# Altium schematic symbol library Passives.SchLib: 160 symbols (part 1 of 2)
Pins are listed as number, name and electrical type; pins without a type are passive.

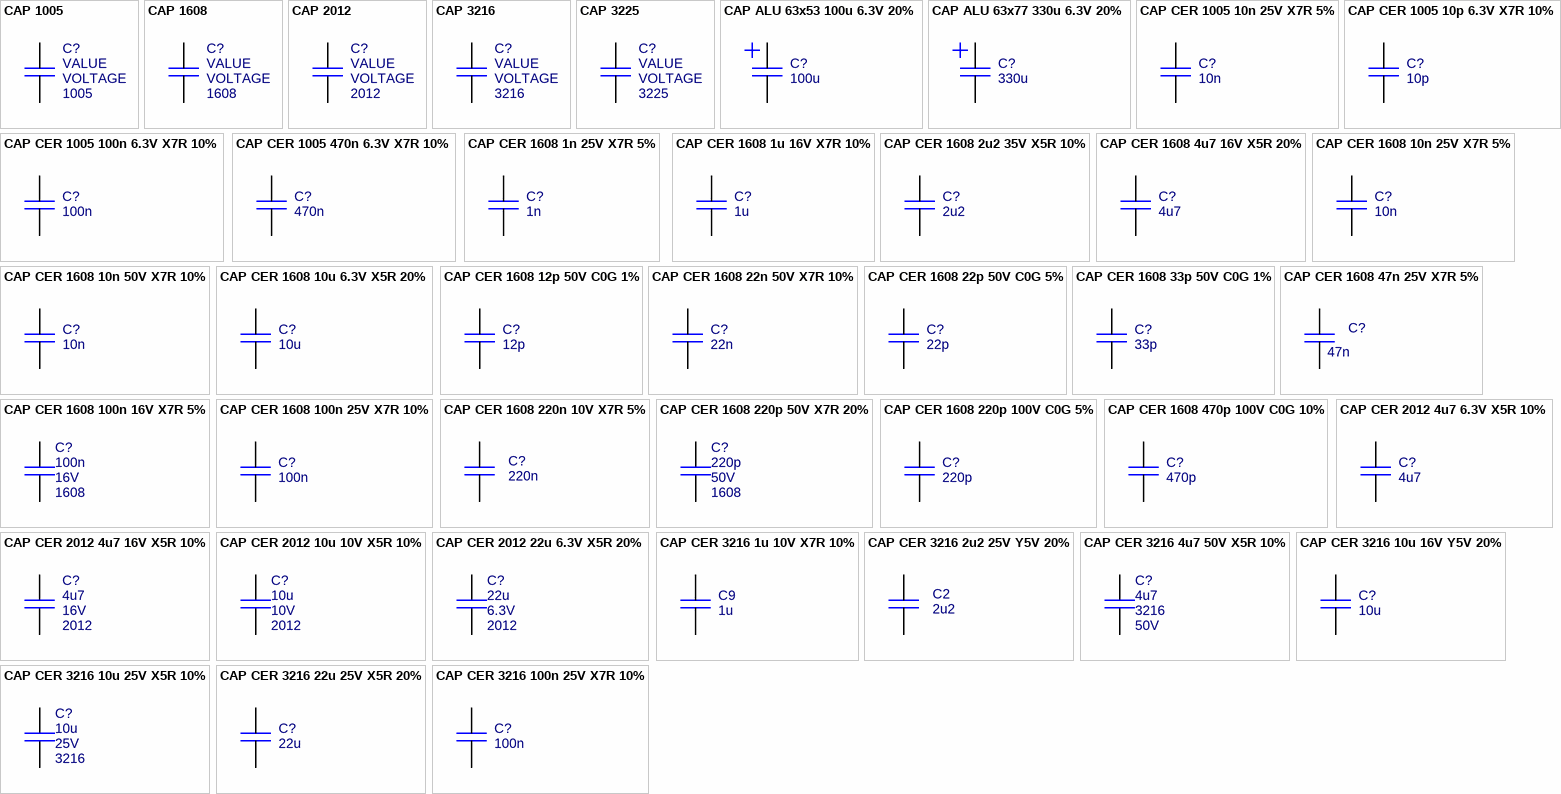
[diagram p0: symbols CAP 1005 to CAP CER 3216 100n 25V X7R 10%]

## CAP 1005
designator C?  Package: 1005  Voltage Rating: VOLTAGE  (hidden comment: CAP 1005)
Capacitor; Package Imperial: 0402; Last Updated: 2014-05-22; ComponentLink1Description: Datasheet; Created: 2014-05-22; Value: VALUE
footprint CAPC1005 (0402) (Metric (Imperial))
pins: 1, 2

## CAP 1608
designator C?, comment Package: 1608  Voltage Rating: VOLTAGE  (hidden comment: Capacitor)
Package Imperial: 0603; ComponentLink1Description: Datasheet; Last Updated: 2014-08-31; Created: 2014-08-31; Tolerance: TOLERANCE; Value: VALUE
footprint CAP_1608 (0603) (Metric (Imperial))
pins: 1, 2

## CAP 2012
designator C?  Package: 2012  Voltage Rating: VOLTAGE  (hidden comment: CAP 2012)
Capacitor; Package Imperial: 0805; Last Updated: 2014-05-20; Tolerance: TOLERANCE; ComponentLink1Description: Datasheet; Created: 2014-05-20; Value: VALUE
footprint CAP_2012 (0805) (Metric (Imperial))
pins: 1, 2

## CAP 3216
designator C?  Package: 3216  Voltage Rating: VOLTAGE  (hidden comment: CAP 3216)
Capacitor; Package Imperial: 1206; ComponentLink1Description: Datasheet; Last Updated: 2014-02-17; Created: 2013-09-28; Value: VALUE
footprint CAP_3216 (1206)
pins: 1, 2

## CAP 3225
designator C?  Package: 3225  Voltage Rating: VOLTAGE  (hidden comment: CAP 3225)
Capacitor; Package Imperial: 1210; Last Updated: 2014-06-09; ComponentLink1Description: Datasheet; Created: 2014-06-09; Value: VALUE
footprint CAP_3225 (1210) (Metric (Imperial))
pins: 1, 2

## CAP ALU 63x53 100u 6.3V 20%
designator C?  value 100u  (hidden comment: CAP ALU 63x53 100u 6.3V 20%)
Electrolytic Capacitor; Supplier Part Number 1: 598-AVE107M06D16T-F; Supplier 1: Mouser; Last Updated: 2014-02-17; Tolerance: 20%; Voltage Rating: 6.3V; ComponentLink1Description: Datasheet; Created: 2013-09-28
footprint ELCO_CASE_D
pins: 1, 2

## CAP ALU 63x77 330u 6.3V 20%
designator C?  value 330u  (hidden comment: CAP ALU 63x77 330u 6.3V 20%)
Electrolytic Capacitor; Supplier Part Number 1: AVE337M06X16T-F; Supplier 1: Mouser; ComponentLink1Description: Datasheet; Last Updated: 2014-02-17; Tolerance: 20%; Voltage Rating: 6.3V; Created: 2013-09-28
footprint 6377CAP(metric)
pins: 1, 2

## CAP CER 1005 10n 25V X7R 5%
designator C?  value 10n  (hidden comment: CAP CER 1005 10n 25V X7R 5%)
Capacitor; Manufacturer 1: Vishay; Manufacturer Part Number 1: VJ0402Y103JXXCW1BC; Package Imperial: 0402; Supplier 1: Mouser; Supplier Part Number 1: 77-VJ0402Y103JXXCBC; Last Updated: 2014-07-01; Tolerance: 5%; Package: 1005; Voltage Rating: 25V; ComponentLink1Description: Datasheet; Created: 2014-07-01; Temperature Coefficiënt: X7R
footprint CAP_1005 (0402) (Metric (Imperial))
pins: 1, 2

## CAP CER 1005 10p 6.3V X7R 10%
designator C?  value 10p  (hidden comment: CAP CER 1005 10p 6.3V X7R 10%)
Capacitor; Package Imperial: 0402; Last Updated: 2014-06-09; Tolerance: 10%; Package: 1005; Voltage Rating: 6.3V; ComponentLink1Description: Datasheet; Created: 2014-06-09; Temperature Coefficiënt: X7R
footprint CAP_1005 (0402) (Metric (Imperial))
pins: 1, 2

## CAP CER 1005 100n 6.3V X7R 10%
designator C?  value 100n  (hidden comment: CAP CER 1005 100n 6.3V X7R 10%)
Capacitor; Package Imperial: 0402; Last Updated: 2014-05-22; Tolerance: 10%; Package: 1005; Voltage Rating: 6.3V; ComponentLink1Description: Datasheet; Created: 2014-05-22; Temperature Coefficiënt: X7R
footprint CAP_1005 (0402) (Metric (Imperial))
pins: 1, 2

## CAP CER 1005 470n 6.3V X7R 10%
designator C?  value 470n  (hidden comment: CAP CER 1005 470n 6.3V X7R 10%)
Capacitor; Manufacturer 1: Taiyo Yuden; Manufacturer Part Number 1: JMK105B7474KVHF; Package Imperial: 0402; Supplier 1: Mouser; Supplier Part Number 1: 963-JMK105B7474KVHF; Last Updated: 2014-05-20; Tolerance: 10%; Package: 1005; Voltage Rating: 6.3V; ComponentLink1Description: Datasheet; Created: 2014-05-20; Temperature Coefficiënt: X7R
footprint CAP_1005 (0402) (Metric (Imperial))
pins: 1, 2

## CAP CER 1608 1n 25V X7R 5%
designator C?  value 1n  (hidden comment: CAP CER 1608 1n 25V X7R 5%)
Capacitor; Package Imperial: 0603; ComponentLink1Description: Datasheet; Last Updated: 2014-02-17; Package: 1608; Temperature Coefficiënt: X7R; Tolerance: 5%; Voltage Rating: 25V; Created: 2013-10-21
footprint CAP_1608 (0603)
pins: 1, 2

## CAP CER 1608 1u 16V X7R 10%
designator C?  value 1u  (hidden comment: CAP CER 1608 1u 16V X7R 10%)
Capacitor; Package Imperial: 0603; Supplier 1: Mouser; Supplier Part Number 1: 810-C1608X7R1C105K; ComponentLink1Description: Datasheet; Last Updated: 2014-02-17; Package: 1608; Temperature Coefficiënt: X7R; Tolerance: 10%; Voltage Rating: 16V; Created: 2013-09-28
footprint CAP_1608 (0603)
pins: 1, 2

## CAP CER 1608 2u2 35V X5R 10%
designator C?  value 2u2  (hidden comment: CAP CER 1608 2u2 35V X5R 10%)
Capacitor; Manufacturer 1: TDK; Manufacturer Part Number 1: C1608X5R1V225K080AC; Package Imperial: 0603; Supplier 1: Mouser; Supplier Part Number 1: 810-C1608X5R1V225K; Last Updated: 2014-02-07; Tolerance: 10%; Package: 1608; Voltage Rating: 35V; ComponentLink1Description: Datasheet; Created: 2014-02-07; Temperature Coefficiënt: X5R
footprint CAP_0603 (Chip Capacitor, Body 1.6x0.8mm, IPC High Density)
footprint CAP_1608 (0603)
pins: 1, 2

## CAP CER 1608 4u7 16V X5R 20%
designator C?  value 4u7  (hidden comment: CAP CER 1608 4u7 16V X5R 20%)
Capacitor; Manufacturer 1: Kemet; Manufacturer Part Number 1: C0603C475K9PACTU; Tolerance: 10%; Package Imperial: 0603; Supplier 1: Mouser; Supplier Part Number 1: 80-C0603C475K9P; Last Updated: 2014-07-01; Package: 1608; Voltage Rating: 16V; ComponentLink1Description: Datasheet; Created: 2013-09-28; Temperature Coefficiënt: X5R
footprint CAP_1608 (0603) (Metric (Imperial))
pins: 1, 2

## CAP CER 1608 10n 25V X7R 5%
designator C?  value 10n  (hidden comment: CAP CER 1608 10n 25V X7R 5%)
Capacitor; Manufacturer 1: Vishay; Manufacturer Part Number 1: VJ0603Y103JXXPW1BC; Package Imperial: 0603; Supplier 1: Mouser; Supplier Part Number 1: 77-VJ0603Y103JXXPBC; ComponentLink1Description: Datasheet; ComponentLink1URL: http://www.vishay.com/docs/28548/vjw1bcbascomseries.pdf; Last Updated: 2014-02-17; Package: 1608; Temperature Coefficiënt: X7R; Tolerance: 5%; Voltage Rating: 25V; Created: 2013-09-28
footprint CAP_0603 (Chip Capacitor, Body 1.6x0.8mm, IPC High Density)
footprint CAP_1608 (0603)
pins: 1, 2

## CAP CER 1608 10n 50V X7R 10%
designator C?  value 10n  (hidden comment: CAP CER 1608 10n 50V X7R 10%)
Capacitor; Manufacturer 1: Vishay; Manufacturer Part Number 1: VJ0603Y103KXACW1BC; Package Imperial: 0603; Supplier 1: Mouser; Supplier Part Number 1: 77-VJ0603Y103KXACBC; ComponentLink1Description: Datasheet; ComponentLink1URL: http://www.vishay.com/docs/28548/vjw1bcbascomseries.pdf; Last Updated: 2014-02-17; Package: 1608; Temperature Coefficiënt: X7R; Tolerance: 10%; Voltage Rating: 50V; Created: 2013-09-28
footprint CAP_0603 (Chip Capacitor, Body 1.6x0.8mm, IPC High Density)
footprint CAP_1608 (0603)
pins: 1, 2

## CAP CER 1608 10u 6.3V X5R 20%
designator C?  value 10u  (hidden comment: CAP CER 1608 10u 6.3V X5R 20%)
Capacitor; Manufacturer 1: AVX; Manufacturer Part Number 1: 06036D106MAT2A; Package Imperial: 0603; Supplier 1: Mouser; Supplier Part Number 1: 581-06036D106MAT2A; Last Updated: 2014-02-17; Tolerance: 20%; Package: 1608; Voltage Rating: 6.3V; ComponentLink1Description: Datasheet; Created: 2014-02-07; Temperature Coefficiënt: X5R
footprint CAP_1608 (0603) (Metric (Imperial))
pins: 1, 2

## CAP CER 1608 12p 50V C0G 1%
designator C?  value 12p  (hidden comment: CAP CER 1608 12p 50V C0G 1%)
Capacitor; Manufacturer 1: Vishay; Manufacturer Part Number 1: VJ0603A120FXACW1BC; Package Imperial: 0603; Supplier 1: Mouser; Supplier Part Number 1: 77-VJ0603A120FXACBC; ComponentLink1Description: Datasheet; ComponentLink1URL: http://www.mouser.com/ds/2/427/vjw1bcbascomseries-223529.pdf; Last Updated: 2014-06-29; Package: 1608; Temperature Coefficiënt: C0G; Tolerance: 1%; Voltage Rating: 50V; Created: 2013-10-17
footprint CAP_1608 (0603) (Metric (Imperial))
pins: 1, 2

## CAP CER 1608 22n 50V X7R 10%
designator C?  value 22n  (hidden comment: CAP CER 1608 22n 50V X7R 10%)
Capacitor; Package Imperial: 0603; Supplier 1: Mouser; Supplier Part Number 1: 77-VJ0603Y223KXACBC; ComponentLink1Description: Datasheet; Last Updated: 2014-02-17; Package: 1608; Temperature Coefficiënt: X7R; Tolerance: 10%; Voltage Rating: 50V; Created: 2013-09-28
footprint CAP_1608 (0603) (Metric (Imperial))
pins: 1, 2

## CAP CER 1608 22p 50V C0G 5%
designator C?  value 22p  (hidden comment: CAP CER 1608 22p 50V C0G 5%)
Capacitor; Manufacturer 1: Vishay; Manufacturer Part Number 1: VJ0603A220JXACW1BC; Package Imperial: 0603; Supplier 1: Mouser; Supplier Part Number 1: 77-VJ0603A220JXACBC; ComponentLink1Description: Datasheet; Last Updated: 2014-08-31; Package: 1608; Temperature Coefficiënt: C0G; Tolerance: 5%; Voltage Rating: 50V; Created: 2014-08-31
footprint CAP_1608 (0603) (Metric (Imperial))
pins: 1, 2

## CAP CER 1608 33p 50V C0G 1%
designator C?  value 33p  (hidden comment: CAP CER 1608 33p 50V C0G 1%)
Capacitor; Package Imperial: 0603; ComponentLink1Description: Datasheet; Last Updated: 2014-02-17; Package: 1608; Temperature Coefficiënt: C0G; Tolerance: 1%; Voltage Rating: 50V; Created: 2013-10-18
footprint CAP_0603 (Chip Capacitor, Body 1.6x0.8mm, IPC High Density)
footprint CAP_1608 (0603)
pins: 1, 2

## CAP CER 1608 47n 25V X7R 5%
designator C?  value 47n  (hidden comment: CAP CER 1608 47n 25V X7R 5%)
Capacitor; Manufacturer 1: Vishay; Manufacturer Part Number 1: VJ0603Y473JXXCW1BC; Package Imperial: 0603; Supplier 1: Mouser; Supplier Part Number 1: 77-VJ0603Y473JXXCBC; ComponentLink1Description: Datasheet; ComponentLink1URL: http://www.vishay.com/docs/28548/vjw1bcbascomseries.pdf; Last Updated: 2014-02-17; Package: 1608; Temperature Coefficiënt: X7R; Tolerance: 5%; Voltage Rating: 25V; Created: 2013-09-30
footprint CAP_0603 (Chip Capacitor, Body 1.6x0.8mm, IPC High Density)
footprint CAP_1608 (0603)
pins: 1, 2

## CAP CER 1608 100n 16V X7R 5%
designator C?  value 100n  Package: 1608  Voltage Rating: 16V  (hidden comment: CAP CER 1608 100n 16V X7R 5%)
Capacitor; Manufacturer 1: Vishay; Manufacturer Part Number 1: VJ0603Y104JXJPW1BC; Package Imperial: 0603; Supplier 1: Mouser; Supplier Part Number 1: 77-VJ0603Y104JXJPBC; ComponentLink1Description: Datasheet; Last Updated: 2014-02-17; Temperature Coefficiënt: X7R; Tolerance: 5%; Created: 2013-09-28
footprint CAPC1608 (0603) (Metric (Imperial))
pins: 1, 2

## CAP CER 1608 100n 25V X7R 10%
designator C?  value 100n  (hidden comment: CAP CER 1608 100n 25V X7R 10%)
Capacitor; Manufacturer 1: Murata; Manufacturer Part Number 1: GRM188R71E104KA01D; Package Imperial: 0603; Supplier 1: Mouser; Supplier Part Number 1: 81-GRM39X104K25; ComponentLink1Description: Datasheet; Last Updated: 2014-06-28; Package: 1608; Temperature Coefficiënt: X7R; Tolerance: 10%; Voltage Rating: 25V; Created: 2014-06-28
footprint CAP_1608 (0603) (Metric (Imperial))
pins: 1, 2

## CAP CER 1608 220n 10V X7R 5%
designator C?  value 220n  (hidden comment: CAP CER 1608 220n 10V X7R 5%)
Capacitor; Package Imperial: 0603; Supplier 1: Mouser; Supplier Part Number 1: 77-VJ0603Y224JXQPBC; ComponentLink1Description: Datasheet; Last Updated: 2014-02-17; Package: 1608; Temperature Coefficiënt: X7R; Tolerance: 5%; Voltage Rating: 10V; Created: 2013-09-28
footprint CAP_0603 (Chip Capacitor, Body 1.6x0.8mm, IPC High Density)
footprint CAP_1608 (0603)
pins: 1, 2

## CAP CER 1608 220p 50V X7R 20%
designator C?  value 220p  Package: 1608  Voltage Rating: 50V  (hidden comment: CAP CER 1608 220p 50V X7R 20%)
Capacitor; Manufacturer 1: Vishay; Manufacturer Part Number 1: VJ0603Y221MXAPW1BC; Package Imperial: 0603; Supplier 1: Mouser; Supplier Part Number 1: 77-VJ0603Y221MXAPBC; ComponentLink1Description: Datasheet; Last Updated: 2015-04-28; Temperature Coefficiënt: X7R; Tolerance: 20%; Created: 2014-02-22
footprint CAPC1608 (0603) (Metric (Imperial))
pins: 1, 2

## CAP CER 1608 220p 100V C0G 5%
designator C?  value 220p  (hidden comment: CAP CER 1608 220p 100V C0G 5%)
Capacitor; Manufacturer 1: Vishay; Manufacturer Part Number 1: VJ0603A221JXBPW1BC; Package Imperial: 0603; Supplier 1: Mouser; Supplier Part Number 1: 140-CC504N221J-RC; ComponentLink1Description: Datasheet; Last Updated: 2014-02-22; Package: 1608; Temperature Coefficiënt: C0G; Tolerance: 5%; Voltage Rating: 100V; Created: 2014-02-22
footprint CAP_1608 (0603)
pins: 1, 2

## CAP CER 1608 470p 100V C0G 10%
designator C?  value 470p  (hidden comment: CAP CER 1608 470p 100V C0G 10%)
Capacitor; Manufacturer 1: Vishay; Manufacturer Part Number 1: VJ0603A471KXBPW1BC; Package Imperial: 0603; Supplier 1: Mouser; Supplier Part Number 1: 77-VJ0603A471KXBPBC; Last Updated: 2014-02-17; Tolerance: 10%; Package: 1608; Voltage Rating: 100V; ComponentLink1Description: Datasheet; Created: 2014-02-07; Temperature Coefficiënt: C0G
footprint CAP_1608 (0603)
pins: 1, 2

## CAP CER 2012 4u7 6.3V X5R 10%
designator C?  value 4u7  (hidden comment: CAP CER 2012 4u7 6.3V X5R 10%)
Capacitor; Manufacturer 1: Vishay; Manufacturer Part Number 1: VJ0805G475KXYTW1BC; Package Imperial: 0805; Supplier 1: Mouser; Supplier Part Number 1: 77-VJ0805G475KXYTBC; Last Updated: 2014-05-20; Tolerance: 10%; Package: 2012; Voltage Rating: 6.3V; ComponentLink1Description: Datasheet; Created: 2014-05-20; Temperature Coefficiënt: X5R
footprint CAP_2012 (0805) (Metric (Imperial))
pins: 1, 2

## CAP CER 2012 4u7 16V X5R 10%
designator C?  value 4u7  Package: 2012  Voltage Rating: 16V  (hidden comment: CAP CER 2012 4u7 16V X5R 10%)
Capacitor; Manufacturer 1: Yageo; Manufacturer Part Number 1: CC0805KKX5R7BB475; Package Imperial: 0805; Supplier 1: Mouser; Supplier Part Number 1: 603-CC805KKX5R7BB475; Last Updated: 2015-04-27; Tolerance: 10%; ComponentLink1Description: Datasheet; Created: 2014-05-20; Temperature Coefficiënt: X5R
footprint CAPC2012 (0805) (Metric (Imperial))
pins: 1, 2

## CAP CER 2012 10u 10V X5R 10%
designator C?  value 10u  Package: 2012  Voltage Rating: 10V  (hidden comment: CAP CER 2012 10u 10V X5R 10%)
Capacitor; Manufacturer 1: Vishay; Manufacturer Part Number 1: VJ0805G106KXQTW1BC; Package Imperial: 0805; Supplier 1: Mouser; Supplier Part Number 1: 77-VJ0805G106KXQTBC; ComponentLink1Description: Datasheet; Last Updated: 2014-07-24; Temperature Coefficiënt: X5R; Tolerance: 10%; Created: 2013-09-28
footprint CAPC2012 (0805) (Metric (Imperial))
pins: 1, 2

## CAP CER 2012 22u 6.3V X5R 20%
designator C?  value 22u  Package: 2012  Voltage Rating: 6.3V  (hidden comment: CAP CER 2012 22u 6.3V X5R 20%)
Capacitor; Manufacturer 1: Vishay; Manufacturer Part Number 1: VJ0805G226MXYTW1BC; Package Imperial: 0805; Supplier 1: Mouser; Supplier Part Number 1: 77-VJ0805G226MXYTBC; ComponentLink1Description: Datasheet; Last Updated: 2015-04-27; Temperature Coefficiënt: X5R; Tolerance: 20%; Created: 2014-06-28
footprint CAPC2012 (0805) (Metric (Imperial))
pins: 1, 2

## CAP CER 3216 1u 10V X7R 10%
designator C9  value 1u  (hidden comment: CAP CER 3216 1u 10V X7R 10%)
Capacitor; Package Imperial: 1206; Supplier 1: Mouser; Supplier Part Number 1: 77-VJ1206Y105KXQTBC; ComponentLink1Description: Datasheet; Last Updated: 2014-02-17; Package: 3216; Temperature Coefficiënt: X7R; Tolerance: 10%; Voltage Rating: 10V; Created: 2013-09-28
footprint CAP_1206 (Chip Capacitor, Body 3.2x1.6mm, IPC High Density)
footprint CAP_3216 (1206)
pins: 1, 2

## CAP CER 3216 2u2 25V Y5V 20%
designator C2  value 2u2  (hidden comment: CAP CER 3216 2u2 25V Y5V 20%)
Capacitor; Package Imperial: 1206; Supplier 1: Mouser; Supplier Part Number 1: 77-VJ1206V225MXXTBC; ComponentLink1Description: Datasheet; Last Updated: 2014-02-17; Package: 3216; Temperature Coefficiënt: Y5V; Tolerance: 20%; Voltage Rating: 25V; Created: 2013-09-28
footprint CAP_3216 (1206)
pins: 1, 2

## CAP CER 3216 4u7 50V X5R 10%
designator C?  value 4u7  Voltage Rating: 50V  Package: 3216  (hidden comment: CAP CER 3216 4u7 50V X5R 10%)
Capacitor; Manufacturer 1: Tayo Yuden; Manufacturer Part Number 1: GMK316F475ZG-T; Package Imperial: 1206; Supplier 1: Mouser; Supplier Part Number 1: 963-GMK316F475ZG-T; ComponentLink1Description: Datasheet; Last Updated: 2015-04-28; Temperature Coefficiënt: X5R; Tolerance: 10%; Created: 2013-09-28
footprint CAPC3216 (1206) (Metric (Imperial))
pins: 1, 2

## CAP CER 3216 10u 16V Y5V 20%
designator C?  value 10u  (hidden comment: CAP CER 3216 10u 16V Y5V 20%)
Capacitor; Package Imperial: 1206; Supplier 1: Mouser; Supplier Part Number 1: 77-VJ1206V106ZXQTBC; ComponentLink1Description: Datasheet; Last Updated: 2014-07-24; Package: 3216; Temperature Coefficiënt: Y5V; Tolerance: 20%; Voltage Rating: 16V; Created: 2013-09-28
footprint CAP_3216 (1206) (Metric (Imperial))
pins: 1, 2

## CAP CER 3216 10u 25V X5R 10%
designator C?  value 10u  Package: 3216  Voltage Rating: 25V  (hidden comment: CAP CER 3216 10u 25V X5R 10%)
Capacitor; Manufacturer 1: Yageo; Manufacturer Part Number 1: CC1206KKX5R8BB106; Package Imperial: 1206; Supplier 1: Mouser; Supplier Part Number 1: 603-CC206KKX5R8BB106; ComponentLink1Description: Datasheet; Last Updated: 2014-07-24; Temperature Coefficiënt: X5R; Tolerance: 10%; Created: 2013-09-28
footprint CAPC3216 (1206) (Metric (Imperial))
pins: 1, 2

## CAP CER 3216 22u 25V X5R 20%
designator C?  value 22u  (hidden comment: CAP CER 3216 22u 25V X5R 20%)
Capacitor; Manufacturer 1: Tayo Yuden; Manufacturer Part Number 1: TMK316BBJ226ML-T; Package Imperial: 1206; Supplier 1: Mouser; Supplier Part Number 1: 963-TMK316BBJ226ML-T; ComponentLink1Description: Datasheet; Last Updated: 2014-06-28; Package: 3216; Temperature Coefficiënt: X5R; Tolerance: 20%; Voltage Rating: 25V; Created: 2014-06-28
footprint CAP_3216 (1206) (Metric (Imperial))
pins: 1, 2

## CAP CER 3216 100n 25V X7R 10%
designator C?  value 100n  (hidden comment: CAP CER 3216 100n 25V X7R 10%)
Capacitor; Manufacturer 1: Vishay; Manufacturer Part Number 1: VJ1206Y104KXXPW1BC; Package Imperial: 1206; Supplier 1: Mouser; Supplier Part Number 1: 77-VJ1206Y104KXXPBC; ComponentLink1Description: Datasheet; Last Updated: 2014-06-28; Package: 3216; Temperature Coefficiënt: X7R; Tolerance: 10%; Voltage Rating: 25V; Created: 2014-06-28
footprint CAP_3216 (1206) (Metric (Imperial))
pins: 1, 2

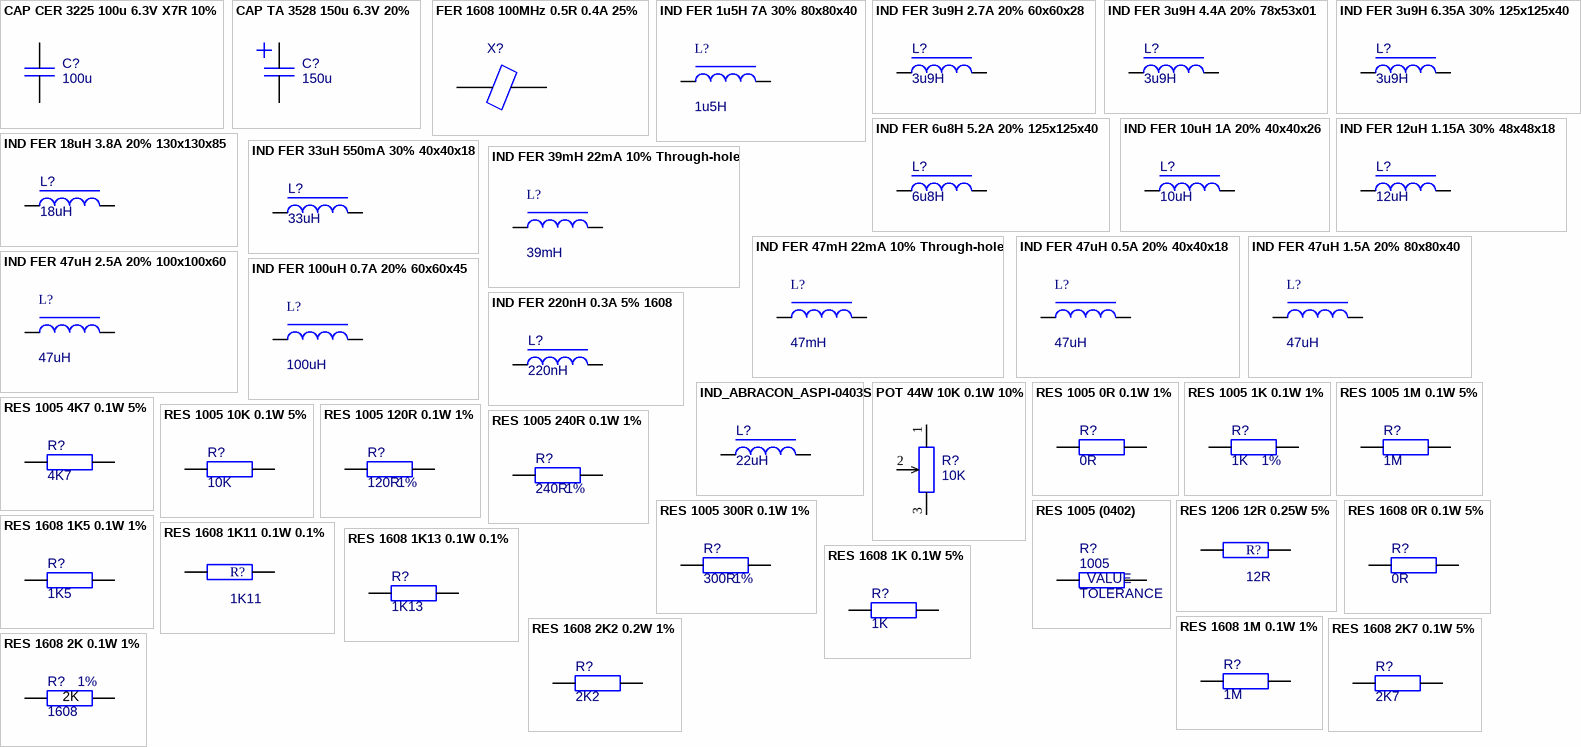
[diagram p1: symbols CAP CER 3225 100u 6.3V X7R 10% to RES 1608 2K 0.1W 1%]

## CAP CER 3225 100u 6.3V X7R 10%
designator C?  value 100u  (hidden comment: CAP CER 3225 100u 6.3V X7R 10%)
Capacitor; Package Imperial: 1210; Last Updated: 2014-06-09; Tolerance: 10%; Package: 3225; Voltage Rating: 6.3V; ComponentLink1Description: Datasheet; Created: 2014-06-09; Temperature Coefficiënt: X7R
footprint CAP_3225 (1210) (Metric (Imperial))
pins: 1, 2

## CAP TA 3528 150u 6.3V 20%
designator C?  value 150u  (hidden comment: CAP TA 3528 150u 6.3V 20%)
Electrolytic Capacitor; Manufacturer 1: AVX; Manufacturer Part Number 1: TCJB157M006R0045; Package Imperial: 1210; ESR: 45mR; Supplier Part Number 1: 581-TCJB157M006R0045; Supplier 1: Mouser; ComponentLink1Description: Datasheet; Last Updated: 2014-05-31; Package: 3528; Tolerance: 20%; Voltage Rating: 6.3V; Created: 2014-05-31
footprint CAPMP3529X21N (Molded Capacitor, 2-Leads, Body 3,50x2,85mm, IPC Medium Density)
pins: 1, 2

## FER 1608 100MHz 0.5R 0.4A 25%
designator X?  (value not drawn)
Ferrite bead; Manufacturer 1: Murata; Manufacturer Part Number 1: BLM18AG102SN1D; Package Imperial: 0603; ComponentLink1Description: Datasheet; Supplier 1: Mouser; Supplier Part Number 1: 81-BLM11A102S; Last Updated: 2014-02-18; Package: 1608; Tolerance: 25%; Created: 2014-02-18; Max DC Current: 0.4A; Max DC Resistance: 0.5R; Test Frequency: 100MHz; Value: Ferrite
footprint FER_1608 (0603) (Metric (Imperial))
pins: 1, 2

## IND FER 1u5H 7A 30% 80x80x40
designator L?  value 1u5H  (hidden comment: IND FER 1u5H 7A 30% 80x80x40)
Inductor; Manufacturer 1: Bourns; Manufacturer Part Number 1: SRN8040-1R5Y; ComponentLink1Description: Datasheet; Supplier 1: Mouser; Supplier Part Number 1: 652-SRN8040-1R5Y; Last Updated: 2013-01-24; Tolerance: 30%; Created: 2014-01-24; Current Rating: 7A
pins: 1, 2

## IND FER 3u9H 2.7A 20% 60x60x28
designator L?  value 3u9H  (hidden comment: IND FER 3u9H 2.7A 20% 60x60x28)
Inductor; Manufacturer 1: Bourns; Manufacturer Part Number 1: SRN6028-3R9M; ComponentLink1Description: Datasheet; Supplier 1: Mouser; Supplier Part Number 1: 652-SRN6028-3R9M; Last Updated: 2014-06-30; Package: SRR1240; Tolerance: 20%; Created: 2014-06-30; Current Rating: 2.7A
footprint BOURNS_SRN6028
pins: 1, 2

## IND FER 3u9H 4.4A 20% 78x53x01
designator L?  value 3u9H  (hidden comment: IND FER 3u9H 4.4A 20% 78x53x01)
Inductor; Manufacturer 1: Bourns; Manufacturer Part Number 1: SRN6028-3R9M; ComponentLink1Description: Datasheet; Supplier 1: Mouser; Supplier Part Number 1: 652-SRN6028-3R9M; Last Updated: 2014-06-30; Package: SRR1240; Tolerance: 20%; Created: 2014-06-30; Current Rating: 4.4A
footprint BOURNS_SDR0805
pins: 1, 2

## IND FER 3u9H 6.35A 30% 125x125x40
designator L?  value 3u9H  (hidden comment: IND FER 3u9H 6.35A 30% 125x125x40)
Inductor; Manufacturer 1: Bourns; Manufacturer Part Number 1: SRR1240-3R9Y; Current Rating: 5.2A; ComponentLink1Description: Datasheet; Supplier 1: Mouser; Supplier Part Number 1: 652-SRR1240-3R9Y; Last Updated: 2014-06-27; Package: SRR1240; Tolerance: 30%; Created: 2014-06-27
footprint BOURNS_SRR1240
pins: 1, 2

## IND FER 6u8H 5.2A 20% 125x125x40
designator L?  value 6u8H  (hidden comment: IND FER 6u8H 5.2A 20% 125x125x40)
Inductor; Manufacturer 1: Bourns; Manufacturer Part Number 1: SRR1240-6R8M; ComponentLink1Description: Datasheet; Supplier 1: Mouser; Supplier Part Number 1: 652-SRR1240-6R8M; Last Updated: 2014-06-27; Package: SRR1240; Tolerance: 20%; Created: 2014-06-27; Current Rating: 5.2A
footprint BOURNS_SRR1240
pins: 1, 2

## IND FER 10uH 1A 20% 40x40x26
designator L?  value 10uH  (hidden comment: IND FER 10uH 1A 20% 40x40x26)
Inductor; Manufacturer 1: Yuden; Manufacturer Part Number 1: NRG4026T100M; Current Rating: 0.7A; ComponentLink1Description: Datasheet; Supplier 1: Mouser; Supplier Part Number 1: 963-NRG4026T100M; Last Updated: 2014-02-07; Package: 963-NRG4026T100M; Tolerance: 20%; Created: 2014-02-07
footprint NR4018
pins: 1, 2

## IND FER 12uH 1.15A 30% 48x48x18
designator L?  value 12uH  (hidden comment: IND FER 12uH 1.15A 30% 48x48x18)
Inductor; Manufacturer 1: Bourns; Manufacturer Part Number 1: SRR4018-120Y; ComponentLink1Description: Datasheet; Supplier 1: Mouser; Supplier Part Number 1: 652-SRR4018-120Y; Last Updated: 2014-02-17; Tolerance: 30%; Created: 2014-02-17; Current Rating: 1.15A
footprint BOURNS_SRR4018
pins: 1, 2

## IND FER 18uH 3.8A 20% 130x130x85
designator L?  value 18uH  (hidden comment: IND FER 18uH 3.8A 20% 130x130x85)
Inductor; Manufacturer 1: Bourns; Manufacturer Part Number 1: SRR1208-180ML; ComponentLink1Description: Datasheet; Supplier 1: Mouser; Supplier Part Number 1: 652-SRR1208-180ML; Last Updated: 2014-06-27; Package: SRR1208; Tolerance: 20%; Created: 2014-06-27; Current Rating: 3.8A
footprint BOURNS_SRR1208
pins: 1, 2

## IND FER 33uH 550mA 30% 40x40x18
designator L?  value 33uH  (hidden comment: IND FER 33uH 550mA 30% 40x40x18)
Inductor; Manufacturer 1: Sumida; Manufacturer Part Number 1: CDRH3D16/LDNP-330NC; Current Rating: 0.55A; ComponentLink1URL: http://www.sumida.com/products/pdf/CDRH3D16,3D16HP,3D16LD.pdf; ComponentLink1Description: Datasheet; Supplier 1: Mouser; Supplier Part Number 1: 851-CDRH3D16LDNP330; Last Updated: 2014-02-16; Tolerance: 30%; Created: 2013-09-28
footprint CDRH3D16 (Sumida inductor package)
pins: 1, 2

## IND FER 39mH 22mA 10% Through-hole
designator L?  value 39mH  (hidden comment: IND FER 39mH 22mA 10% Through-hole)
Inductor; Current Rating: 0.022A; ComponentLink1Description: Datasheet; Supplier 1: Mouser; Supplier Part Number 1: 652-RLB1014-393KL; Last Updated: 2013-09-28; Tolerance: 10%; Created: 2013-09-28
footprint IND_BOURNS_RLB1014 (Inductor Bourns RLB1014)
pins: 1, 2

## IND FER 47mH 22mA 10% Through-hole
designator L?  value 47mH  (hidden comment: IND FER 47mH 22mA 10% Through-hole)
Inductor; Current Rating: 0.022A; ComponentLink1Description: Datasheet; Supplier 1: Mouser; Last Updated: 2013-09-28; Tolerance: 10%; Created: 2013-09-28
footprint IND_BOURNS_RLB1014 (Inductor Bourns RLB1014)
pins: 1, 2

## IND FER 47uH 0.5A 20% 40x40x18
designator L?  value 47uH  (hidden comment: IND FER 47uH 0.5A 20% 40x40x18)
Inductor; Manufacturer 1: Yuden; ComponentLink1URL: http://www.yuden.co.jp/ut/product/category/inductor/NR4018T470M.pdf; ComponentLink1Description: Datasheet; Supplier 1: Mouser; Supplier Part Number 1: 963-NR4018T470M; Last Updated: 2013-09-28; Tolerance: 20%; Created: 2013-09-28; Current Rating: 0.5A
footprint NR4018
pins: 1, 2

## IND FER 47uH 1.5A 20% 80x80x40
designator L?  value 47uH  (hidden comment: IND FER 47uH 1.5A 20% 80x80x40)
Inductor; ComponentLink1URL: http://www.mouser.com/ds/2/396/wound04_e-8385.pdf; ComponentLink1Description: Datasheet; Supplier 1: Mouser; Supplier Part Number 1: 963-NR8040T470M; Last Updated: 2013-09-28; Tolerance: 20%; Created: 2013-09-28; Current Rating: 1.5A
footprint 8040IND(METRIC)
pins: 1, 2

## IND FER 47uH 2.5A 20% 100x100x60
designator L?  value 47uH  (hidden comment: IND FER 47uH 2.5A 20% 100x100x60)
Inductor; Manufacturer 1: Bourns; ComponentLink1URL: http://www.bourns.com/data/global/pdfs/SRN1060.pdf; ComponentLink1Description: Datasheet; Supplier 1: Mouser; Supplier Part Number 1: 652-SRN1060-470M; Last Updated: 2013-09-28; Tolerance: 20%; Created: 2013-09-28; Current Rating: 2.5A
footprint 1060IND(METRIC)
pins: 1, 2

## IND FER 100uH 0.7A 20% 60x60x45
designator L?  value 100uH  (hidden comment: IND FER 100uH 0.7A 20% 60x60x45)
Inductor; Manufacturer 1: Yuden; ComponentLink1URL: http://www.yuden.co.jp/ut/product/category/inductor/NR4018T470M.pdf; ComponentLink1Description: Datasheet; Supplier 1: Mouser; Supplier Part Number 1: 963-NR4018T470M; Last Updated: 2013-09-28; Tolerance: 20%; Created: 2013-09-28; Current Rating: 0.7A
footprint 6045IND(metric)
pins: 1, 2

## IND FER 220nH 0.3A 5% 1608
designator L?  value 220nH  (hidden comment: IND FER 220nH 0.3A 5% 1608)
Inductor; Manufacturer 1: Johanson Technology; Manufacturer Part Number 1: L-14CR22JV4T; Tolerance: 20%; Package Imperial: 0603; ComponentLink1Description: Datasheet; Supplier 1: Mouser; Supplier Part Number 1: 609-L-14CR22JV4T; Last Updated: 2014-06-10; Package: 1608; Created: 2014-06-10; Current Rating: 0.3A
footprint 0603IND (Chip Inductor Body 1.6x0.8mm, IPC High Density)
pins: 1, 2

## IND_ABRACON_ASPI-0403S
designator L?  value 22uH
Inductor; Manufacturer 1: Abracon; Manufacturer Part Number 1: ASPI-0403S; ComponentLink1Description: Datasheet; Last Updated: 2014-03-27; Created: 2014-03-27
footprint ABRACON_ASPI-0403S
pins: 1, 2

## POT 44W 10K 0.1W 10%
designator R?  value 10K  (hidden comment: POT 44W 10K 0.1W 10%)
Potentiometer; Manufacturer 1: Bi Technologies; Manufacturer Part Number 1: 858-44WR10KLFT7; Supplier 1: Mouser; Supplier Part Number 1: 44WR10KLFT7; Tolerance: 10%; ComponentLink1Description: Datasheet; Last Updated: 2014-08-30; Package: 44W; Created: 2014-08-30; Power Rating: 0.1W
footprint MODEL44W (4mm Square Multiturn Surface Mount Cermet Trimming Potentiometer)
pins: 1, 2, 3

## RES 1005 0R 0.1W 1%
designator R?  value 0R  (hidden comment: RES 1005 0R 0.1W 1%)
Resistor; Package Imperial: 0402; Last Updated: 2014-06-08; ComponentLink1Description: Datasheet; Package: 1005; Created: 2014-06-08; Power Rating: 0.1W; Tolerance: 1%
footprint RES_1005 (0402) (Metric (Imperial))
pins: 1, 2

## RES 1005 1K 0.1W 1%
designator R?  value 1K  Tolerance: 1%  (hidden comment: RES 1005 1K 0.1W 1%)
Resistor; Package Imperial: 0402; Last Updated: 2014-02-22; ComponentLink1Description: Datasheet; Package: 1005; Created: 2014-02-22; Power Rating: 0.1W
footprint RES_1005 (0402) (Metric (Imperial))
pins: 1, 2

## RES 1005 1M 0.1W 5%
designator R?  value 1M  (hidden comment: RES 1005 1M 0.1W 5%)
Resistor; Package Imperial: 0402; Last Updated: 2014-06-17; ComponentLink1Description: Datasheet; Package: 1005; Created: 2014-06-17; Power Rating: 0.1W; Tolerance: 5%
footprint RES_1005 (0402) (Metric (Imperial))
pins: 1, 2

## RES 1005 4K7 0.1W 5%
designator R?  value 4K7  (hidden comment: RES 1005 4K7 0.1W 5%)
Resistor; Package Imperial: 0402; Last Updated: 2014-07-28; ComponentLink1Description: Datasheet; Package: 1005; Created: 2014-07-28; Power Rating: 0.1W; Tolerance: 5%
footprint RES_1005 (0402) (Metric (Imperial))
pins: 1, 2

## RES 1005 10K 0.1W 5%
designator R?  value 10K  (hidden comment: RES 1005 10K 0.1W 5%)
Resistor; Package Imperial: 0402; ComponentLink1Description: Datasheet; Last Updated: 2014-07-04; Package: 1005; Tolerance: 5%; Created: 2014-07-04; Power Rating: 0.1W
footprint RES_1005 (0402) (Metric (Imperial))
pins: 1, 2

## RES 1005 120R 0.1W 1%
designator R?  value 120R  Tolerance: 1%  (hidden comment: RES 1005 120R 0.1W 1%)
Resistor; Package Imperial: 0402; Last Updated: 2014-02-22; ComponentLink1Description: Datasheet; Package: 1005; Created: 2014-02-22; Power Rating: 0.1W
footprint RES_1005 (0402) (Metric (Imperial))
pins: 1, 2

## RES 1005 240R 0.1W 1%
designator R?  value 240R  Tolerance: 1%  (hidden comment: RES 1005 240R 0.1W 1%)
Resistor; Package Imperial: 0402; Last Updated: 2014-02-23; ComponentLink1Description: Datasheet; Package: 1005; Created: 2014-02-23; Power Rating: 0.1W
footprint RES_1005 (0402) (Metric (Imperial))
pins: 1, 2

## RES 1005 300R 0.1W 1%
designator R?  value 300R  Tolerance: 1%  (hidden comment: RES 1005 300R 0.1W 1%)
Resistor; Package Imperial: 0402; Last Updated: 2014-05-30; ComponentLink1Description: Datasheet; Package: 1005; Created: 2014-05-30; Power Rating: 0.1W
footprint RES_1005 (0402) (Metric (Imperial))
pins: 1, 2

## RES 1005 (0402)
designator R?  Package: 1005  (hidden comment: RES 1005 (0402))
Resistor; Package Imperial: 0402; Last Updated: 2014-06-08; ComponentLink1Description: Datasheet; Created: 2014-06-08; Tolerance: TOLERANCE; Value: VALUE
footprint RES_1005 (0402) (Metric (Imperial))
pins: 1, 2

## RES 1206 12R 0.25W 5%
designator R?  value 12R  (hidden comment: RES 1206 12R 0.25W 5%)
Resistor; Package Imperial: 1206; Supplier 1: Mouser; Supplier Part Number 1: 667-ERJ-T08J120V; Last Updated: 2013-09-28; ComponentLink1Description: Datasheet; Package: 3216; Tolerance: 5%; Created: 2013-09-28; Power Rating: 0.25W
footprint 1206RES (Chip Resistor, Body 3.1x1.6mm, IPC High Density)
footprint RES_1206
pins: 1, 2

## RES 1608 0R 0.1W 5%
designator R?  value 0R  (hidden comment: RES 1608 0R 0.1W 5%)
Resistor (Jumper); Manufacturer 1: Vishay; Manufacturer Part Number 1: CRCW06030000Z0EA; Package Imperial: 0603; Supplier 1: Mouser; Supplier Part Number 1: 71-CRCW0603-0-E3; Last Updated: 2014-05-17; ComponentLink1Description: Datasheet; Package: 1608; Tolerance: 5%; Created: 2014-05-17; Power Rating: 0.1W
footprint RES_0603 (Chip Resistor, Body 1.6x0.8mm, IPC High Density)
footprint RES_1608 (0603)
pins: 1, 2

## RES 1608 1K5 0.1W 1%
designator R?  value 1K5  (hidden comment: RES 1608 1K5 0.1W 1%)
Resistor; Manufacturer 1: KOA Speer; Manufacturer Part Number 1: ERJ-3EKF1501V; Package Imperial: 0603; Supplier 1: Mouser; Supplier Part Number 1: 667-ERJ-3EKF1501V; Tolerance: 1%; ComponentLink1Description: Datasheet; ComponentLink1URL: http://industrial.panasonic.com/www-data/pdf/AOA0000/AOA0000CE2.pdf; Last Updated: 2014-02-17; Created: 2013-10-17; Power Rating: 0.1W; Package: 1608
footprint RES_1608 (0603)
pins: 1, 2

## RES 1608 1K11 0.1W 0.1%
designator R?  value 1K11  (hidden comment: RES 1608 1K11 0.1W 0.1%)
Resistor; Package Imperial: 0603; Tolerance: 0.1%; ComponentLink1Description: Datasheet; Last Updated: 2014-01-24; Package: 1608; Created: 2014-01-24; Power Rating: 0.1W
footprint RES_0603 (Chip Resistor, Body 1.6x0.8mm, IPC High Density)
footprint RES_1608 (0603)
pins: 1, 2

## RES 1608 1K13 0.1W 0.1%
designator R?  value 1K13  (hidden comment: RES 1608 1K13 0.1W 0.1%)
Resistor; Package Imperial: 0603; Tolerance: 0.1%; ComponentLink1Description: Datasheet; Last Updated: 2014-05-07; Package: 1608; Created: 2014-01-24; Power Rating: 0.1W
footprint RES_0603 (Chip Resistor, Body 1.6x0.8mm, IPC High Density)
footprint RES_1608 (0603)
pins: 1, 2

## RES 1608 1K 0.1W 5%
designator R?  value 1K  (hidden comment: RES 1608 1K 0.1W 5%)
Resistor; Package Imperial: 0603; Supplier 1: Mouser; Supplier Part Number 1: 667-ERJ-3EKF1001V; Last Updated: 2014-02-07; ComponentLink1Description: Datasheet; Package: 1608; Tolerance: 5%; Created: 2013-09-28; Power Rating: 0.1W
footprint RES_1608 (0603)
pins: 1, 2

## RES 1608 1M 0.1W 1%
designator R?  value 1M  (hidden comment: RES 1608 1M 0.1W 1%)
Resistor; Package Imperial: 0603; Supplier 1: Mouser; Supplier Part Number 1: 660-RK73H1JTTD1004F; Last Updated: 2014-02-17; Tolerance: 1%; ComponentLink1Description: Datasheet; Package: 1608; Created: 2013-09-28; Power Rating: 0.1W
footprint RES_1608 (0603) (Metric (Imperial))
pins: 1, 2

## RES 1608 2K2 0.2W 1%
designator R?  value 2K2  (hidden comment: RES 1608 2K2 0.2W 1%)
Resistor; Manufacturer 1: KOA Speer; Manufacturer Part Number 1: SG73P1JTTD2201F; Package Imperial: 0603; Supplier 1: Mouser; Supplier Part Number 1: 660-SG73P1JTTD2201F; Tolerance: 1%; ComponentLink1Description: Datasheet; Last Updated: 2014-02-07; Created: 2013-10-17; Power Rating: 0.2W; Package: 1608
footprint RES_1608 (0603)
pins: 1, 2

## RES 1608 2K7 0.1W 5%
designator R?  value 2K7  (hidden comment: RES 1608 2K7 0.1W 5%)
Resistor; Package Imperial: 0603; ComponentLink1Description: Datasheet; Last Updated: 2014-01-23; Package: 1608; Tolerance: 5%; Created: 2014-01-23; Power Rating: 0.1W
footprint RES_1608 (0603)
pins: 1, 2

## RES 1608 2K 0.1W 1%
designator R?  Tolerance: 1%  Package: 1608  (hidden comment: RES 1608 2K 0.1W 1%)
Resistor; Manufacturer 1: Vishay; Manufacturer Part Number 1: MCT06030C2001FP500; Package Imperial: 0603; Supplier 1: Mouser; Supplier Part Number 1: 594-MCT06030C2001FP5; ComponentLink1Description: Datasheet; Last Updated: 2015-04-27; Created: 2013-10-17; Power Rating: 0.1W; Value: 2K
footprint RESC1608 (0603) (Metric (Imperial))
pins: 1, 2

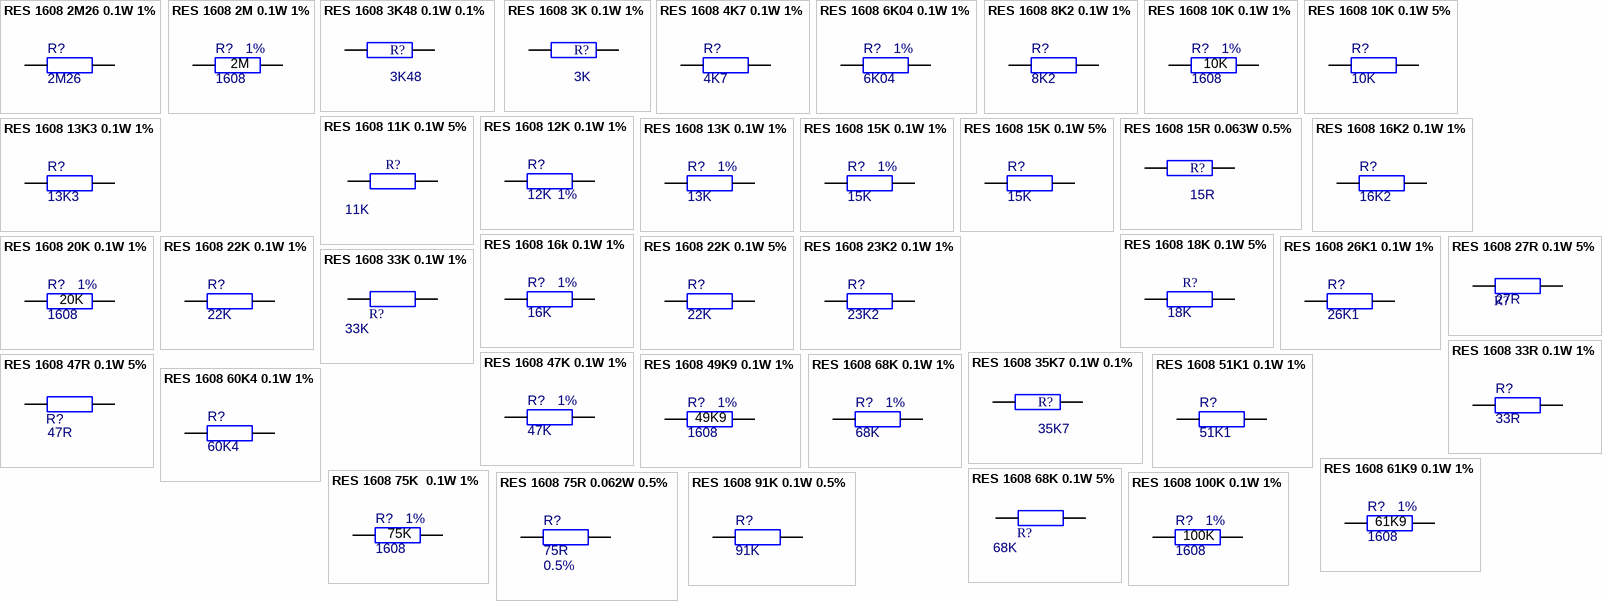
[diagram p2: symbols RES 1608 2M26 0.1W 1% to RES 1608 100K 0.1W 1%]

## RES 1608 2M26 0.1W 1%
designator R?  value 2M26  (hidden comment: RES 1608 2M26 0.1W 1%)
Resistor; Manufacturer 1: KOA Speer; Manufacturer Part Number 1: RK73H1JTTDD2264F; Package Imperial: 0603; Supplier 1: Mouser; Supplier Part Number 1: 660-RK73H1JTTDD2264F; Tolerance: 1%; ComponentLink1Description: Datasheet; Last Updated: 2014-02-07; Created: 2014-02-07; Power Rating: 0.1W; Package: 1608
footprint RES_1608 (0603)
pins: 1, 2

## RES 1608 2M 0.1W 1%
designator R?  Tolerance: 1%  Package: 1608  (hidden comment: RES 1608 2M 0.1W 1%)
Resistor; Manufacturer 1: KOA Speer; Manufacturer Part Number 1: HV731JTTD2004F; Package Imperial: 0603; Supplier 1: Mouser; Supplier Part Number 1: 660-HV731JTTD2004F; ComponentLink1Description: Datasheet; Last Updated: 2015-04-27; Created: 2014-02-07; Power Rating: 0.1W; Value: 2M
footprint RESC1608 (0603) (Metric (Imperial))
pins: 1, 2

## RES 1608 3K48 0.1W 0.1%
designator R?  value 3K48  (hidden comment: RES 1608 3K48 0.1W 0.1%)
Resistor; Package Imperial: 0603; Tolerance: 0.1%; ComponentLink1Description: Datasheet; Last Updated: 2014-01-24; Package: 1608; Created: 2014-01-24; Power Rating: 0.1W
footprint RES_0603 (Chip Resistor, Body 1.6x0.8mm, IPC High Density)
footprint RES_1608 (0603)
pins: 1, 2

## RES 1608 3K 0.1W 1%
designator R?  value 3K  (hidden comment: RES 1608 3K 0.1W 1%)
Resistor; Package Imperial: 0603; Supplier 1: Mouser; Supplier Part Number 1: 302-3.0K-RC; Tolerance: 1%; ComponentLink1Description: Datasheet; Last Updated: 2013-09-28; Package: 1608; Created: 2013-09-28; Power Rating: 0.1W
footprint RES_0603 (Chip Resistor, Body 1.6x0.8mm, IPC High Density)
footprint RES_1608 (0603)
pins: 1, 2

## RES 1608 4K7 0.1W 1%
designator R?  value 4K7  (hidden comment: RES 1608 4K7 0.1W 1%)
Resistor; Package Imperial: 0603; Supplier 1: Mouser; Supplier Part Number 1: 71-CRCW0603-4.7K-E3; Last Updated: 2014-02-19; Tolerance: 1%; ComponentLink1Description: Datasheet; Created: 2013-09-28; Power Rating: 0.1W; Package: 1608
footprint RES_1608 (0603) (Metric (Imperial))
pins: 1, 2

## RES 1608 6K04 0.1W 1%
designator R?  value 6K04  Tolerance: 1%  (hidden comment: RES 1608 6K04 0.1W 1%)
Resistor; Package Imperial: 0603; ComponentLink1Description: Datasheet; Last Updated: 2014-05-30; Created: 2014-05-30; Power Rating: 0.1W; Package: 1608
footprint RES_1608 (0603) (Metric (Imperial))
pins: 1, 2

## RES 1608 8K2 0.1W 1%
designator R?  value 8K2  (hidden comment: RES 1608 8K2 0.1W 1%)
Resistor; Package Imperial: 0603; Supplier 1: Mouser; Supplier Part Number 1: 667-ERJ-3EKF8201V; Last Updated: 2014-02-17; Tolerance: 1%; ComponentLink1Description: Datasheet; Package: 1608; Created: 2013-09-28; Power Rating: 0.1W
footprint RES_0603 (Chip Resistor, Body 1.6x0.8mm, IPC High Density)
footprint RES_1608 (0603)
pins: 1, 2

## RES 1608 10K 0.1W 1%
designator R?  Package: 1608  Tolerance: 1%  (hidden comment: RES 1608 10K 0.1W 1%)
Resistor; Manufacturer 1: Vishay; Manufacturer Part Number 1: CRCW060310K0FKEA; Package Imperial: 0603; Supplier 1: Mouser; Supplier Part Number 1: 71-CRCW0603-10K-E3; ComponentLink1Description: Datasheet; Last Updated: 2015-04-28; Created: 2013-09-28; Power Rating: 0.1W; Value: 10K
footprint RESC1608 (0603) (Metric (Imperial))
pins: 1, 2

## RES 1608 10K 0.1W 5%
designator R?  value 10K  (hidden comment: RES 1608 10K 0.1W 5%)
Resistor; Package Imperial: 0603; Supplier 1: Mouser; Supplier Part Number 1: 667-ERA-3AED103V; ComponentLink1Description: Datasheet; Last Updated: 2014-02-10; Package: 1608; Tolerance: 5%; Created: 2013-09-28; Power Rating: 0.1W
footprint RES_1608 (0603) (Metric (Imperial))
pins: 1, 2

## RES 1608 11K 0.1W 5%
designator R?  value 11K  (hidden comment: RES 1608 11K 0.1W 5%)
Resistor; Package Imperial: 0603; Supplier 1: Mouser; Supplier Part Number 1: 301-11K-RC; ComponentLink1Description: Datasheet; Last Updated: 2013-09-28; Package: 1608; Tolerance: 5%; Created: 2013-09-28; Power Rating: 0.1W
footprint RES_1608 (0603)
pins: 1, 2

## RES 1608 12K 0.1W 1%
designator R?  value 12K  Tolerance: 1%  (hidden comment: RES 1608 12K 0.1W 1%)
Resistor; Package Imperial: 0603; Supplier Part Number 1: 71-CRCW0603-12K-E3; Supplier 1: Mouser; ComponentLink1Description: Datasheet; Last Updated: 2014-06-27; Package: 1608; Created: 2013-09-28; Power Rating: 0.1W
footprint RES_1608 (0603)
pins: 1, 2

## RES 1608 13K3 0.1W 1%
designator R?  value 13K3  (hidden comment: RES 1608 13K3 0.1W 1%)
Resistor; Package Imperial: 0603; Supplier 1: Mouser; Supplier Part Number 1: 302-13.3K-RC; Tolerance: 1%; ComponentLink1Description: Datasheet; Last Updated: 2014-02-17; Package: 1608; Created: 2013-09-28; Power Rating: 0.1W
footprint RES_1608 (0603)
pins: 1, 2

## RES 1608 13K 0.1W 1%
designator R?  value 13K  Tolerance: 1%  (hidden comment: RES 1608 13K 0.1W 1%)
Resistor; Package Imperial: 0603; ComponentLink1Description: Datasheet; Last Updated: 2014-06-27; Created: 2014-05-26; Power Rating: 0.1W; Package: 1608
footprint RES_1608 (0603) (Metric (Imperial))
pins: 1, 2

## RES 1608 15K 0.1W 1%
designator R?  value 15K  Tolerance: 1%  (hidden comment: RES 1608 15K 0.1W 1%)
Resistor; Package Imperial: 0603; ComponentLink1Description: Datasheet; Last Updated: 2014-06-27; Created: 2014-05-26; Power Rating: 0.1W; Package: 1608
footprint RES_1608 (0603) (Metric (Imperial))
pins: 1, 2

## RES 1608 15K 0.1W 5%
designator R?  value 15K  (hidden comment: RES 1608 15K 0.1W 5%)
Resistor; Package Imperial: 0603; ComponentLink1Description: Datasheet; Last Updated: 2014-05-26; Created: 2014-05-26; Power Rating: 0.1W; Package: 1608; Tolerance: 5%
footprint RES_1608 (0603) (Metric (Imperial))
pins: 1, 2

## RES 1608 15R 0.063W 0.5%
designator R?  value 15R  (hidden comment: RES 1608 15R 0.063W 0.5%)
Resistor; Manufacturer 1: Susumu; Manufacturer Part Number 1: RR0816Q-150-D; Power Rating: 0.63W; Package Imperial: 0603; Supplier 1: Mouser; Supplier Part Number 1: 754-RR0816Q-150D; Last Updated: 2013-10-28; ComponentLink1Description: Datasheet; ComponentLink1URL: http://www.mouser.com/ds/2/392/products_12-5886.pdf; Package: 1608; Tolerance: 0.5%; Created: 2013-10-28
footprint RES_1608 (0603)
pins: 1, 2

## RES 1608 16K2 0.1W 1%
designator R?, comment value 16K2  (hidden comment: RES 1608 16k2 0.1W 1%)
Resistor; Package Imperial: 0603; Supplier 1: Mouser; Supplier Part Number 1: 302-16.2K-RC; Tolerance: 1%; ComponentLink1Description: Datasheet; Last Updated: 2014-02-17; Package: 1608; Created: 2013-09-28; Power Rating: 0.1W
footprint RES_1608 (0603)
pins: 1, 2

## RES 1608 16k 0.1W 1%
designator R?  value 16K  Tolerance: 1%  (hidden comment: RES 1608 16k 0.1W 1%)
Resistor; Package Imperial: 0603; ComponentLink1Description: Datasheet; Last Updated: 2014-06-27; Package: 1608; Created: 2014-06-27; Power Rating: 0.1W
footprint RES_1608 (0603) (Metric (Imperial))
pins: 1, 2

## RES 1608 18K 0.1W 5%
designator R?  value 18K  (hidden comment: RES 1608 18K 0.1W 5%)
Resistor; Package Imperial: 0603; Supplier 1: Mouser; Supplier Part Number 1: 301-18K-RC; ComponentLink1Description: Datasheet; Last Updated: 2013-09-28; Package: 1608; Tolerance: 5%; Created: 2013-09-28; Power Rating: 0.1W
footprint RES_1608 (0603)
pins: 1, 2

## RES 1608 20K 0.1W 1%
designator R?  Package: 1608  Tolerance: 1%  (hidden comment: RES 1608 20K 0.1W 1%)
Resistor; Manufacturer 1: Vishay; Manufacturer Part Number 1: CRCW060320K0FKEA; Package Imperial: 0603; Supplier 1: Mouser; Supplier Part Number 1: 71-CRCW0603-20K-E3; ComponentLink1Description: Datasheet; Last Updated: 2014-06-27; Created: 2014-06-27; Power Rating: 0.1W; Value: 20K
footprint RESC1608 (0603) (Metric (Imperial))
pins: 1, 2

## RES 1608 22K 0.1W 1%
designator R?  value 22K  (hidden comment: RES 1608 22K 0.1W 1%)
Resistor; Package Imperial: 0603; Supplier 1: Mouser; Supplier Part Number 1: 603-RT0603FRE0722KL; Tolerance: 1%; ComponentLink1Description: Datasheet; Last Updated: 2013-09-28; Package: 1608; Created: 2013-09-28; Power Rating: 0.1W
footprint RES_1608 (0603)
pins: 1, 2

## RES 1608 22K 0.1W 5%
designator R?  value 22K  (hidden comment: RES 1608 22K 0.1W 5%)
Resistor; Package Imperial: 0603; Supplier 1: Mouser; Supplier Part Number 1: 603-RT0603FRE0722KL; ComponentLink1Description: Datasheet; Last Updated: 2013-09-28; Package: 1608; Tolerance: 5%; Created: 2013-09-28; Power Rating: 0.1W
footprint RES_1608 (0603)
pins: 1, 2

## RES 1608 23K2 0.1W 1%
designator R?  value 23K2  (hidden comment: RES 1608 23K2 0.1W 1%)
Resistor; Package Imperial: 0603; Supplier 1: Mouser; Supplier Part Number 1: 302-23.2K-RC; Tolerance: 1%; ComponentLink1Description: Datasheet; Last Updated: 2014-02-17; Package: 1608; Created: 2013-09-28; Power Rating: 0.1W
footprint RES_0603 (Chip Resistor, Body 1.6x0.8mm, IPC High Density)
footprint RES_1608 (0603)
pins: 1, 2

## RES 1608 26K1 0.1W 1%
designator R?  value 26K1  (hidden comment: RES 1608 26K1 0.1W 1%)
Resistor; Package Imperial: 0603; Supplier 1: Mouser; Supplier Part Number 1: 302-26.1K-RC; Tolerance: 1%; ComponentLink1Description: Datasheet; Last Updated: 2014-02-07; Package: 1608; Created: 2013-09-28; Power Rating: 0.1W
footprint RES_1608 (0603)
pins: 1, 2

## RES 1608 27R 0.1W 5%
designator R?  value 27R  (hidden comment: RES 1608 27R 0.1W 5%)
Resistor; Package Imperial: 0603; Last Updated: 2013-10-18; ComponentLink1Description: Datasheet; Package: 1608; Tolerance: 5%; Created: 2013-10-18; Power Rating: 0.1W
footprint RES_1608 (0603)
pins: 1, 2

## RES 1608 33K 0.1W 1%
designator R?  value 33K  (hidden comment: RES 1608 33K 0.1W 1%)
Resistor; Package Imperial: 0603; Supplier 1: Mouser; Supplier Part Number 1: 603-RT0603FRE0733KL; Tolerance: 1%; ComponentLink1Description: Datasheet; Last Updated: 2013-09-28; Package: 1608; Created: 2013-09-28; Power Rating: 0.1W
footprint RES_1608 (0603)
pins: 1, 2

## RES 1608 33R 0.1W 1%
designator R?  value 33R  (hidden comment: RES 1608 33R 0.1W 1%)
Resistor; Package Imperial: 0603; Tolerance: 1%; ComponentLink1Description: Datasheet; Last Updated: 2014-08-25; Created: 2014-08-25; Power Rating: 0.1W; Package: 1608
footprint RES_1608 (0603)
pins: 1, 2

## RES 1608 35K7 0.1W 0.1%
designator R?  value 35K7  (hidden comment: RES 1608 35K7 0.1W 0.1%)
Resistor; Package Imperial: 0603; Tolerance: 0.1%; ComponentLink1Description: Datasheet; Last Updated: 2014-01-24; Package: 1608; Created: 2014-01-24; Power Rating: 0.1W
footprint RES_1608 (0603)
pins: 1, 2

## RES 1608 47K 0.1W 1%
designator R?  value 47K  Tolerance: 1%  (hidden comment: RES 1608 47K 0.1W 1%)
Resistor; Manufacturer 1: Yageo; Manufacturer Part Number 1: RT0603FRE0747KL; Package Imperial: 0603; Supplier 1: Mouser; Supplier Part Number 1: 603-RT0603FRE0747KL; ComponentLink1Description: Datasheet; Last Updated: 2014-04-27; Package: 1608; Created: 2013-09-28; Power Rating: 0.1W
footprint RES_1608 (0603) (Metric (Imperial))
pins: 1, 2

## RES 1608 47R 0.1W 5%
designator R?  value 47R  (hidden comment: RES 1608 47R 0.1W 5%)
Resistor; Manufacturer 1: Vishay; Manufacturer Part Number 1: CRCW060347R0FKEA; Package Imperial: 0603; Supplier 1: Mouser; Supplier Part Number 1: 71-CRCW0603-47-E3; ComponentLink1Description: Datasheet; Last Updated: 2014-05-17; Package: 1608; Tolerance: 5%; Created: 2014-05-17; Power Rating: 0.1W
footprint RES_1608 (0603)
pins: 1, 2

## RES 1608 49K9 0.1W 1%
designator R?  Package: 1608  Tolerance: 1%  (hidden comment: RES 1608 49K9 0.1W 1%)
Resistor; Manufacturer 1: Vishay; Manufacturer Part Number 1: CRCW060349K9FKEA; Package Imperial: 0603; Supplier 1: Mouser; Supplier Part Number 1: 71-CRCW0603-49.9K-E3; ComponentLink1Description: Datasheet; Last Updated: 2014-04-27; Created: 2013-09-28; Power Rating: 0.1W; Value: 49K9
footprint RESC1608 (0603) (Metric (Imperial))
pins: 1, 2

## RES 1608 51K1 0.1W 1%
designator R?  value 51K1  (hidden comment: RES 1608 51K1 0.1W 1%)
Resistor; Package Imperial: 0603; Supplier 1: Mouser; Supplier Part Number 1: 302-51.1K-RC; Tolerance: 1%; ComponentLink1Description: Datasheet; Last Updated: 2014-02-17; Package: 1608; Created: 2013-09-28; Power Rating: 0.1W
footprint RES_1608 (0603)
pins: 1, 2

## RES 1608 60K4 0.1W 1%
designator R?  value 60K4  (hidden comment: RES 1608 60K4 0.1W 1%)
Resistor; Package Imperial: 0603; Supplier 1: Mouser; Supplier Part Number 1: 302-60.4K-RC; Tolerance: 1%; ComponentLink1Description: Datasheet; Last Updated: 2013-09-28; Package: 1608; Created: 2013-09-28; Power Rating: 0.1W
footprint RES_1608 (0603)
pins: 1, 2

## RES 1608 61K9 0.1W 1%
designator R?  Tolerance: 1%  Package: 1608  (hidden comment: RES 1608 61K9 0.1W 1%)
Resistor; Manufacturer 1: Vishay; Manufacturer Part Number 1: CRCW060361K9FKEA; Package Imperial: 0603; Supplier 1: Mouser; Supplier Part Number 1: 71-CRCW0603-61.9K-E3; ComponentLink1Description: Datasheet; Last Updated: 2015-04-27; Created: 2014-02-17; Power Rating: 0.1W; Value: 61K9
footprint RESC1608 (0603) (Metric (Imperial))
pins: 1, 2

## RES 1608 68K 0.1W 1%
designator R?  value 68K  Tolerance: 1%  (hidden comment: RES 1608 68K 0.1W 1%)
Resistor; Package Imperial: 0603; ComponentLink1Description: Datasheet; Last Updated: 2014-01-23; Package: 1608; Created: 2014-01-23; Power Rating: 0.1W
footprint RES_1608 (0603) (Metric (Imperial))
pins: 1, 2

## RES 1608 68K 0.1W 5%
designator R?  value 68K  (hidden comment: RES 1608 68K 0.1W 5%)
Resistor; Package Imperial: 0603; ComponentLink1Description: Datasheet; Last Updated: 2014-01-23; Package: 1608; Tolerance: 5%; Created: 2014-01-23; Power Rating: 0.1W
footprint RES_1608 (0603)
pins: 1, 2

## RES 1608 75K  0.1W 1%
designator R?  Tolerance: 1%  Package: 1608  (hidden comment: RES 1608 75K  0.1W 1%)
Resistor; Manufacturer 1: Yageo; Manufacturer Part Number 1: RT0603FRE0775KL; Package Imperial: 0603; Supplier 1: Mouser; Supplier Part Number 1: 603-RT0603FRE0775KL; ComponentLink1Description: Datasheet; Last Updated: 2015-04-27; Created: 2013-09-28; Power Rating: 0.1W; Value: 75K
footprint RESC1608 (0603) (Metric (Imperial))
pins: 1, 2

## RES 1608 75R 0.062W 0.5%
designator R?  value 75R  Tolerance: 0.5%  (hidden comment: RES 1608 75R 0.062W 0.5%)
Resistor; Manufacturer 1: Susumu; Manufacturer Part Number 1: RR0816Q-750-D; Package Imperial: 0603; Supplier 1: Mouser; Supplier Part Number 1: 754-RR0816Q-750D; ComponentLink1Description: Datasheet; Last Updated: 2014-05-17; Package: 1608; Created: 2014-05-17; Power Rating: 0.062W
footprint RES_1608 (0603)
pins: 1, 2

## RES 1608 91K 0.1W 0.5%
designator R?  value 91K  (hidden comment: RES 1608 91K 0.1W 0.5%)
Resistor; Package Imperial: 0603; Supplier 1: Mouser; Supplier Part Number 1: 754-RR0816P-913D; ComponentLink1Description: Datasheet; Last Updated: 2013-09-28; Package: 1608; Tolerance: 0.5%; Created: 2013-09-28; Power Rating: 0.1W
footprint RES_1608 (0603)
pins: 1, 2

## RES 1608 100K 0.1W 1%
designator R?  Tolerance: 1%  Package: 1608  (hidden comment: RES 1608 100K 0.1W 1%)
Resistor; Manufacturer 1: Vishay; Manufacturer Part Number 1: CRCW0603100KFKEA; Package Imperial: 0603; Supplier 1: Mouser; Supplier Part Number 1: 71-CRCW0603-100K-E3; ComponentLink1Description: Datasheet; Last Updated: 2014-02-07; Created: 2013-09-28; Power Rating: 0.1W; Value: 100K
footprint RES_0603 (Chip Resistor, Body 1.6x0.8mm, IPC High Density)
footprint RESC1608 (0603) (Metric (Imperial))
pins: 1, 2

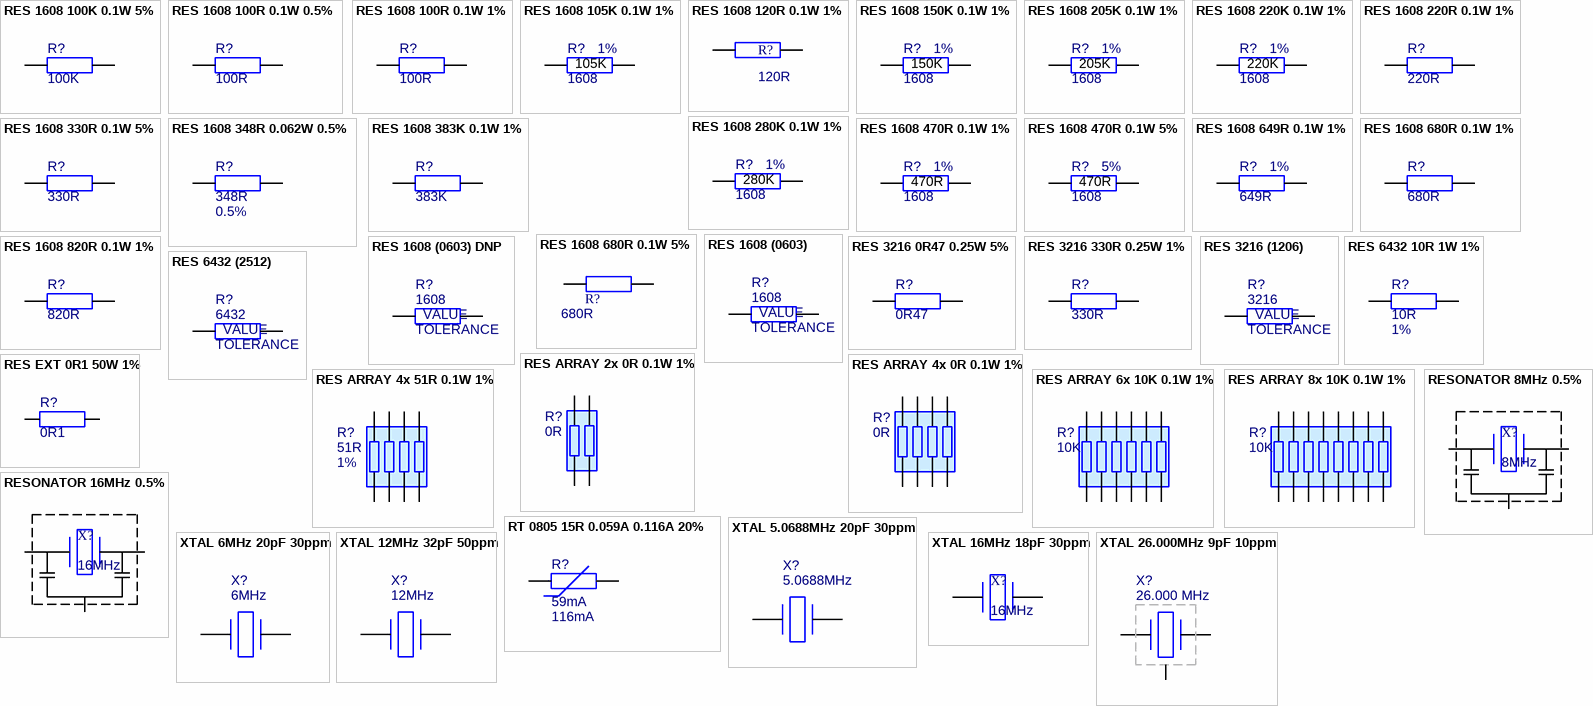
[diagram p3: symbols RES 1608 100K 0.1W 5% to XTAL 26.000MHz 9pF 10ppm]